# EAGLE library part ATTINNY85 (library Harrington-ICs v130)
8-Bit Microprocessor Atmel
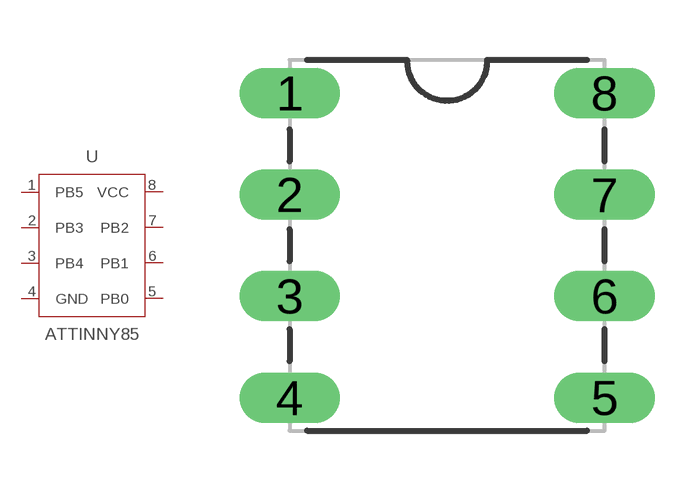
[diagram p10: symbol with the pads of 8P3-PDIP; footprint 8P3-PDIP]

Designator prefix U

## ATTINNY85 (VALUE: ATtiny85)  [8P3-PDIP]
1  PB5
2  PB3
3  PB4
4  GND  pwr
5  PB0
6  PB1
7  PB2
8  VCC  pwr

## Footprint 8P3-PDIP (pad centres in mm)
drill 0.75 long: 1 -3.937,3.81; 2 -3.937,1.27; 3 -3.937,-1.27; 4 -3.937,-3.81; 5 3.937,-3.81; 6 3.937,-1.27; 7 3.937,1.27; 8 3.937,3.81